# Altium schematic symbol library LP3852EMP-3.3_NOPB.SchLib: 1 symbol
Pins are listed as number, name and electrical type; pins without a type are passive.

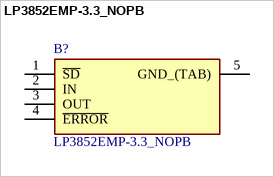
[diagram p0: symbol LP3852EMP-3.3_NOPB]

## LP3852EMP-3.3_NOPB
designator B?
LP3852EMP-3.3/NOPB, Low Dropout Voltage Regulator, 1.5A, 3.3 V +/-1.5%, 2.5  7 Vin, 5-Pin SOT-223; Manufacturer_Name: Texas Instruments; Geometry.Height: 1.8mm; Manufacturer_Part_Number: LP3852EMP-3.3/NOPB; Mouser Part Number: 926-LP3852EMP33NOPB; Mouser Price/Stock: https://www.mouser.co.uk/ProductDetail/Texas-Instruments/LP3852EMP-33-NOPB?qs=1FNqv8aZn1SurWe7DNzDPA%3D%3D; Arrow Part Number: LP3852EMP-3.3/NOPB; Arrow Price/Stock: https://www.arrow.com/en/products/lp3852emp-3.3nopb/texas-instruments; Datasheet Link: http://www.ti.com/lit/ds/symlink/lp3852.pdf
footprint SOT150P700X180-5N
pins: 1 ~{SD}, 2 IN, 3 OUT, 4 ~{ERROR}, 5 GND_(TAB)